# Altium footprint library Battery_Protection.PcbLib: 5 footprints
Each footprint in its own frame and in the unit in brackets; x right, y up, seen from the top. Pads: shape width x height; smd on the part's side, far side on the other; paste and mask are expansions set on the pad; w line width, h text height; cw(c..) or ccw(c..) is an arc to the next point about the centre after c.
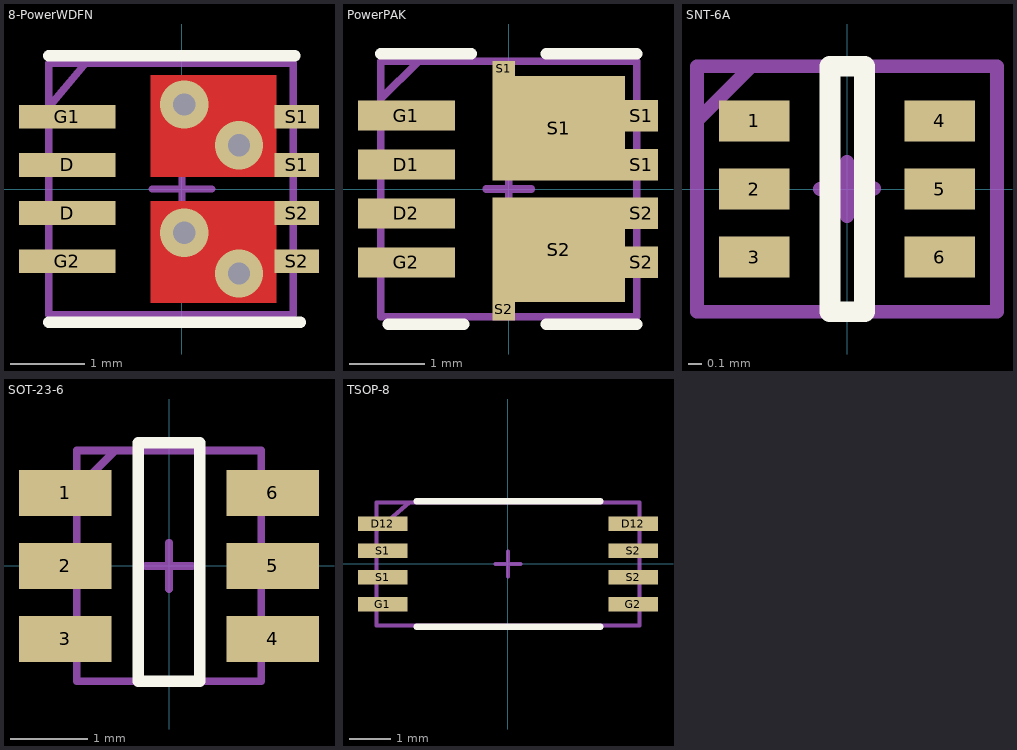
[diagram p0: the footprints below, top view; thin cyan lines are the x and y axes]

## 8-PowerWDFN [mm]
pads (8):
  rect 1.3x0.32 smd: D(-1.55,-0.325) D(-1.55,0.325) G1(-1.55,0.975) G2(-1.55,-0.975)
  rect 0.6x0.32 smd: S1(1.55,0.325) S1(1.55,0.975) S2(1.55,-0.975) S2(1.55,-0.325)
via 0.03,-0.59 diameter 0.65 hole 0.3
via 0.03,1.14 diameter 0.65 hole 0.3
via 0.77,0.59 diameter 0.65 hole 0.3
via 0.77,-1.14 diameter 0.65 hole 0.3
Top Layer:
  rectangle: -0.425,0.165 1.275,1.54
  region: 1.275,-0.165 -0.425,-0.165 -0.425,-1.54 1.275,-1.54
Top Overlay:
  lines w0.153: -1.8,-1.8 1.6,-1.8 ; -1.8,1.8 1.525,1.8
  text "." at -2.347,1.753 h0.8
Top Solder:
  region: 1.275,-0.165 -0.425,-0.165 -0.425,-1.54 1.275,-1.54
  rectangle: -0.425,0.166 1.275,1.54
Top Assembly:
  lines w0.1: -1.8,1.1 -1.3,1.7 ; -1.8,-1.7 1.5,-1.7 1.5,1.7 -1.8,1.7 -1.8,-1.7
Mechanical 15:
  lines w0.1: -0.4,0 0.4,0 ; 0,-0.362 0,0.363 ; -1.8,-1.7 1.5,-1.7 1.5,1.7 -1.8,1.7 -1.8,-1.7
3D body "User Library-PQFN8.STEP": height 0.78, standoff -0.02, extent -1.8,-1.65 1.5,1.65

## PowerPAK [mm]
pads (12):
  rect 1.29x0.4 smd: D1(-1.36,0.325) D2(-1.36,-0.325) G1(-1.36,0.975) G2(-1.36,-0.975)
  rect 0.3x0.2 smd: S1(-0.066,1.6)
  rect 1.76x1.39 smd: S1(0.664,0.81) S2(0.664,-0.81)
  rect 0.45x0.42 smd: S1(1.76,0.325) S1(1.76,0.975) S2(1.76,-0.975) S2(1.76,-0.325)
  rect 0.3x0.3 smd: S2(-0.066,-1.6)
Top Overlay:
  lines w0.153: -1.7,1.8 -0.5,1.8 ; -1.6,-1.8 -0.6,-1.8 ; 0.5,-1.8 1.7,-1.8 ; 0.5,1.8 1.7,1.8
  text "." at -2.247,1.753 h0.8
Top Assembly:
  lines w0.1: -1.7,1.2 -1.2,1.7 ; -1.7,-1.7 1.7,-1.7 1.7,1.7 -1.7,1.7 -1.7,-1.7
Mechanical 15:
  lines w0.1: -0.3,0 0,0 ; 0,-0.3 0,0 ; 0,0.3 0,0 ; 0.3,0 0,0 ; -1.7,-1.7 1.7,-1.7 1.7,1.7 -1.7,1.7 -1.7,-1.7
3D body "User Library-PowerPAK 1212-8S.STEP": height 0.8, standoff 0, extent -1.7,-1.7 1.7,1.7

## SNT-6A [mm]
pads (6):
  rect 0.52x0.3 smd: 1(-0.68,0.5) 2(-0.68,0) 3(-0.68,-0.5) 4(0.68,0.5) 5(0.68,0) 6(0.68,-0.5)
Top Overlay:
  lines w0.153: -0.124,-0.9 -0.124,0.9 0.13,0.9 0.13,-0.9 -0.124,-0.9
  text "." at -0.747,0.953 h0.8
Top Assembly:
  lines w0.1: -1.1,0.5 -0.7,0.9 ; -1.1,-0.9 -1.1,0.9 1.1,0.9 1.1,-0.9 -1.1,-0.9
Mechanical 15:
  lines w0.1: -0.2,0 0,0 ; 0,-0.2 0,0 ; 0,0.003 0.2,0.003 ; 0,0.2 0,0 ; -1.1,-0.9 -1.1,0.9 1.1,0.9 1.1,-0.9 -1.1,-0.9
3D body "User Library-VMT6.STEP": height 0.53, standoff -0.02, extent -0.6,-0.6 0.6,0.6

## SOT-23-6 [mm] "SOT23, 6-Leads, Body 2,90x2,80mm, Pitch 0,95mm, IPC Medium Density"
height 1.45
pads (6):
  rect 1.2x0.6 smd: 1(-1.35,0.95) 2(-1.35,0) 3(-1.35,-0.95) 4(1.35,-0.95) 5(1.35,0) 6(1.35,0.95)
Top Overlay:
  lines w0.153: -0.4,-1.5 0.4,-1.5 0.4,1.6 -0.4,1.6 -0.4,-1.5
  text "." at -1.447,1.553 h0.8
Top Assembly:
  lines w0.1: -1.2,1 -0.7,1.5 ; -1.2,-1.5 -1.2,1.5 1.2,1.5 1.2,-1.5 -1.2,-1.5
Mechanical 15:
  lines w0.1: -0.3,0 0.3,0 ; 0,-0.3 0,0.3 ; -1.2,-1.5 -1.2,1.5 1.2,1.5 1.2,-1.5 -1.2,-1.5
3D body "User Library-SOT23-6-4.STEP": height 1, standoff -0.1, extent -1.24,-1.442 1.16,1.458

## TSOP-8 [mm] "TSOP, 8-Leads, Body 2,93x4,40mm, Pitch 0,65mm, Thermal Pad 2,50x4,00mm, IPC Medium Density"
height 1.2
pads (8):
  rect 1.2x0.35 smd mask+0.05: D12(-3.05,0.975) D12(3.05,0.975) G1(-3.05,-0.975) G2(3.05,-0.975) S1(-3.05,-0.325) S1(-3.05,0.325) S2(3.05,-0.325) S2(3.05,0.325)
Top Overlay:
  lines w0.153: -2.225,-1.525 2.25,-1.525 ; -2.225,1.525 2.25,1.525
  text "." at -3.247,1.453 h0.8
Top Assembly:
  lines w0.1: -3.2,0.8 -2.4,1.5 ; -3.2,-1.5 -3.2,1.5 3.2,1.5 3.2,-1.5 -3.2,-1.5
  text "'.Designator'" at -3.047,1.92 h0.8
Mechanical 15:
  lines w0.1: -0.3,0 0.3,0 ; 0,-0.3 0,0.3 ; -3.2,-1.5 3.2,-1.5 3.2,1.5 -3.2,1.5 -3.2,-1.5
3D body "TSOP65P640X120_HS-9N.step": height 1.2, standoff 0, extent -3.2,-1.5 3.2,1.5